# EAGLE library part 2X8_HEADER (library myFab)
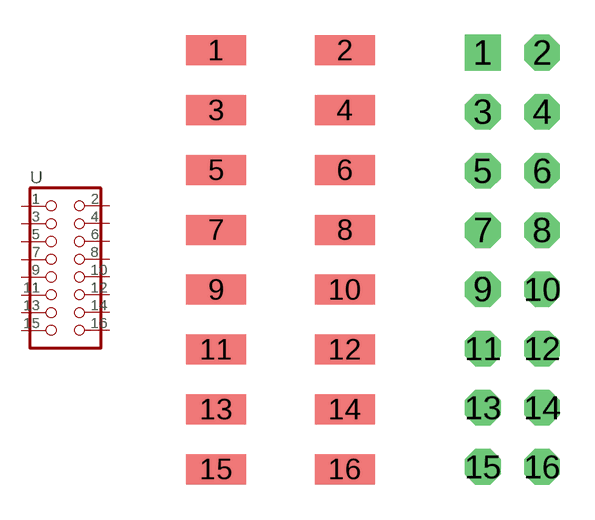
[diagram p27: symbol with the pads of 2X8_SMD; footprints 2X8_SMD, 2X8_THM]

Designator prefix -

## 2X8_HEADERSMD  [2X8_SMD]
1  1  pas
2  2  pas
3  3  pas
4  4  pas
5  5  pas
6  6  pas
7  7  pas
8  8  pas
9  9  pas
10  10  pas
11  11  pas
12  12  pas
13  13  pas
14  14  pas
15  15  pas
16  16  pas

## 2X8_HEADERTHM  [2X8_THM]
Pads as for 2X8_SMD

## Footprint 2X8_SMD (pad centres in mm)
smd 2.54 x 1.27: 1 -2.731,8.89; 2 2.729,8.89; 3 -2.731,6.35; 4 2.729,6.35; 5 -2.731,3.81; 6 2.729,3.81; 7 -2.731,1.27; 8 2.729,1.27; 9 -2.731,-1.27; 10 2.729,-1.27; 11 -2.731,-3.81; 12 2.729,-3.81; 13 -2.731,-6.35; 14 2.729,-6.35; 15 -2.731,-8.89; 16 2.729,-8.89

## Footprint 2X8_THM (pad centres in mm)
PIN HEADER
drill 1.016 square: 1 -1.27,8.89
drill 1.016 octagon: 2 1.27,8.89; 3 -1.27,6.35; 4 1.27,6.35; 5 -1.27,3.81; 6 1.27,3.81; 7 -1.27,1.27; 8 1.27,1.27; 9 -1.27,-1.27; 10 1.27,-1.27; 11 -1.27,-3.81; 12 1.27,-3.81; 13 -1.27,-6.35; 14 1.27,-6.35; 15 -1.27,-8.89; 16 1.27,-8.89